# Altium schematic symbol library IND,39nH,250mA,Multilayer,0402.Schlib: 1 symbol
Pins are listed as number, name and electrical type; pins without a type are passive.

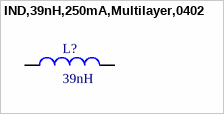
[diagram p0: symbol IND,39nH,250mA,Multilayer,0402]

## IND,39nH,250mA,Multilayer,0402
designator L?, comment 39nH
Unshielded Multilayer Inductor 1.06Ohm Max 0402 (1005 Metric)
pins: 1, 2